# Altium footprint library Keyswitch.PcbLib: 3 footprints
Each footprint in its own frame and in the unit in brackets; x right, y up, seen from the top. Pads: shape width x height; smd on the part's side, far side on the other; paste and mask are expansions set on the pad; w line width, h text height; cw(c..) or ccw(c..) is an arc to the next point about the centre after c.
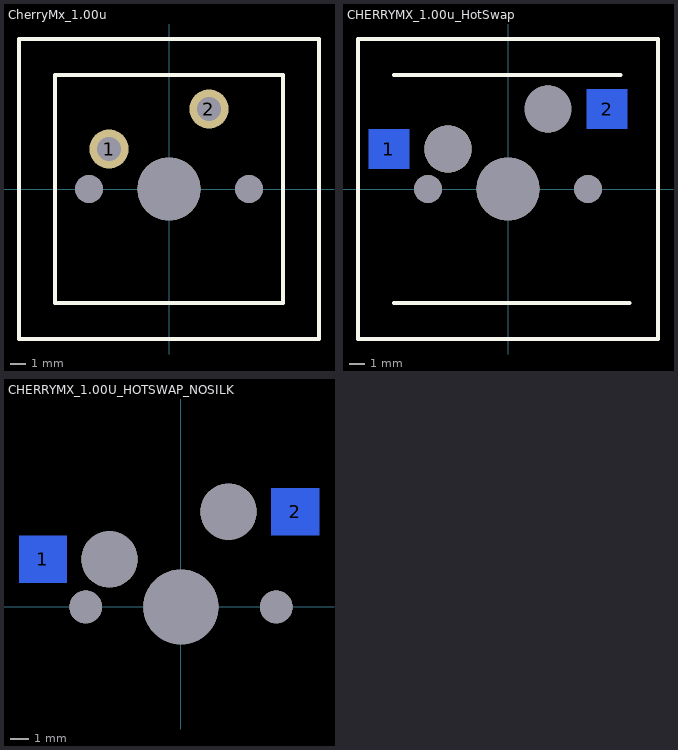
[diagram p0: the footprints below, top view; thin cyan lines are the x and y axes]

## CherryMx_1.00u [mm]
pads (5):
  round 2.5 hole 1.5: 1(-3.81,2.54) 2(2.54,5.08)
  round 1.75 hole 1.75: ""(-5.08,0) ""(5.08,0)
  round 4 hole 4: ""(0,0)
Top Overlay:
  lines w0.254: -9.525,-9.525 9.525,-9.525 9.525,9.525 -9.525,9.525 -9.525,-9.525 ; -7.25,-7.25 7.25,-7.25 7.25,7.25 -7.25,7.25 -7.25,-7.25

## CHERRYMX_1.00u_HotSwap [mm]
pads (7):
  rect 2.55x2.5 smd far side: 1(-7.56,2.54) 2(6.29,5.08)
  round 1.75 hole 1.75: ""(-5.08,0) ""(5.08,0)
  round 3 hole 3: ""(-3.81,2.54)
  round 4 hole 4: ""(0,0)
  oval 2.9x3 hole 3: ""(2.54,5.08)
Top Overlay:
  lines w0.254: -7.25,-7.25 7.725,-7.25 ; -7.25,7.25 7.15,7.25 ; -9.525,-9.525 9.525,-9.525 9.525,9.525 -9.525,9.525 -9.525,-9.525

## CHERRYMX_1.00U_HOTSWAP_NOSILK [mm]
pads (7):
  rect 2.55x2.5 smd far side: 1(-7.36,2.54) 2(6.09,5.08)
  round 1.75 hole 1.75 mask+0.05: ""(-5.08,0) ""(5.08,0)
  round 3 hole 3 mask+0.05: ""(-3.81,2.54) ""(2.54,5.08)
  round 4 hole 4 mask+0.05: ""(0,0)
3D body "asm_mx_asm_PCB.stp": height 16.94, standoff -1.66, extent -7.807,-7.807 7.793,7.793
3D body "Kailh Hotswap.step": height 0.8, standoff -2.25, extent -7.875,0.885 6.625,6.775
3D body "Cherry MX Keycap.step": height 22.45, standoff 12.82, extent -9.075,-9.025 8.925,8.975